# EAGLE library part 25AA02E48-SOIC-8 (library 25AA02E48)
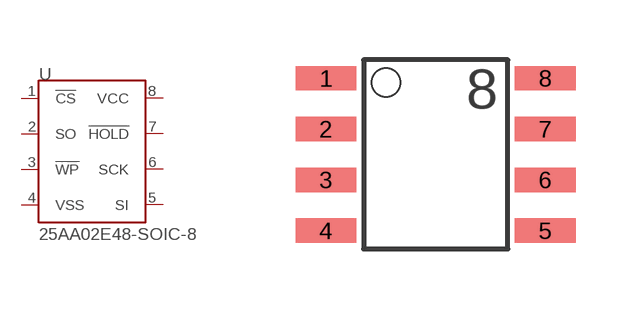
[diagram p0: symbol with the pads of SO-8; footprint SO-8]

Designator prefix -

## 25AA02E48-SOIC-8  [SO-8]
1  !CS
2  SO
3  !WP
4  VSS
5  SI
6  SCK
7  !HOLD
8  VCC

## Footprint SO-8 (pad centres in mm)
SO 8 small outline
smd 1.524 x 0.61: 1 -2.743,1.27; 2 -2.743,0; 3 -2.743,-1.27; 4 -2.743,-2.54; 5 2.743,-2.54; 6 2.743,-1.27; 7 2.743,0; 8 2.743,1.27